# EAGLE library part FT231X (library FlashPCB_ICs)
FT231X - USB to FULL HANDSHAKE UART IC Technical Specifications: Standard: USB 2.0 Supply Voltage: 3.3v - 5v Component Search: [DATA SHEET NAME] <[FLASHPCB URL]> Datasheet: FT231X <http://www.ftdichip.com/Support/Documents/DataSheets/ICs/DS_FT231X.pdf>
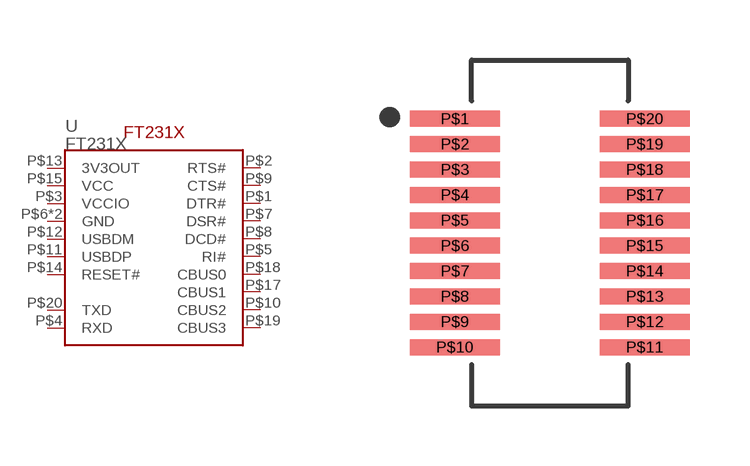
[diagram p47: symbol with the pads of 20-SSOP; footprint 20-SSOP]

Designator prefix U

## FT231X  [20-SSOP]
P$1  DTR#
P$2  RTS#
P$3  VCCIO
P$4  RXD
P$5  RI#
P$6  GND
P$7  DSR#
P$8  DCD#
P$9  CTS#
P$10  CBUS2
P$11  USBDP
P$12  USBDM
P$13  3V3OUT
P$14  RESET#
P$15  VCC
P$16  GND
P$17  CBUS1
P$18  CBUS0
P$19  CBUS3
P$20  TXD

## Footprint 20-SSOP (pad centres in mm)
smd 2.25 x 0.4: P$1 -2.375,2.857; P$2 -2.375,2.223; P$3 -2.375,1.587; P$4 -2.375,0.953; P$5 -2.375,0.318; P$6 -2.375,-0.318; P$7 -2.375,-0.953; P$8 -2.375,-1.587; P$9 -2.375,-2.223; P$10 -2.375,-2.857; P$11 2.375,-2.857; P$12 2.375,-2.223; P$13 2.375,-1.587; P$14 2.375,-0.953; P$15 2.375,-0.318; P$16 2.375,0.318; P$17 2.375,0.953; P$18 2.375,1.587; P$19 2.375,2.223; P$20 2.375,2.857